# Altium footprint library RC0402FR072KL.PcbLib: 3 footprints
Each footprint in its own frame and in the unit in brackets; x right, y up, seen from the top. Pads: shape width x height; smd on the part's side, far side on the other; paste and mask are expansions set on the pad; w line width, h text height; cw(c..) or ccw(c..) is an arc to the next point about the centre after c.
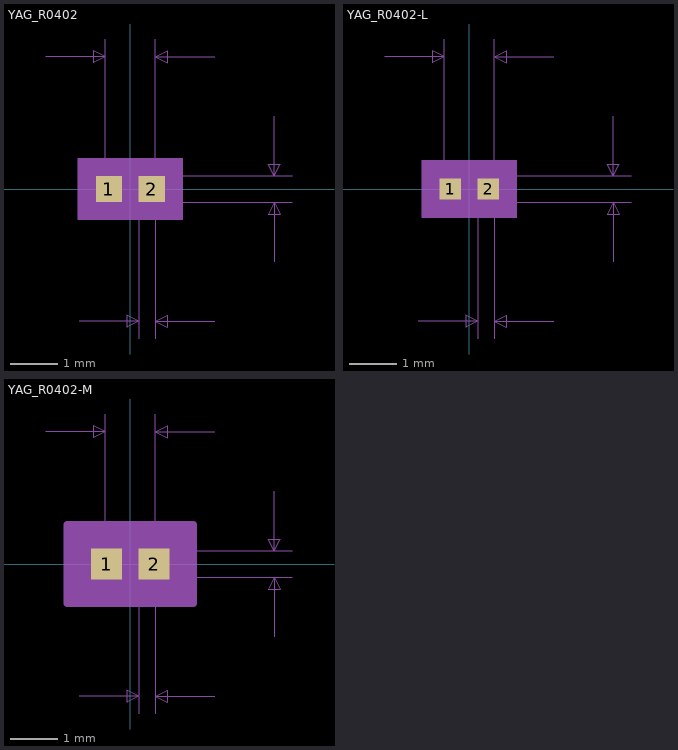
[diagram p0: the footprints below, top view; thin cyan lines are the x and y axes]

## YAG_R0402 [mil]
pads (2):
  rect 22x22 smd paste+0 mask+0: 1(-18,0) 2(18,0)
Mechanical 5:
  region: 44,-26 -44,-26 -44,26 44,26
Mechanical 7:
  lines w1: -71,111 -21,111 ; -43,-111 7,-111 ; -21,0 -21,126 ; 0,-11 136,-11 ; 0,11 136,11 ; 7,-126 7,0 ; 21,-126 21,0 21,126 ; 71,-111 21,-111 ; 71,111 21,111 ; 121,-61 121,-11 ; 121,61 121,11 ; -21,111 -31,116 -31,106 -21,111 ; 7,-111 -3,-106 -3,-116 7,-111 ; 21,-111 31,-106 31,-116 21,-111 ; 21,111 31,116 31,106 21,111 ; 121,-11 116,-21 126,-21 121,-11 ; 121,11 116,21 126,21 121,11
  text "Default Padstyle: RX22Y22D0T" at -350,-281 h50
  text "Alt 1 Padstyle: OX60Y90D30P" at -337.5,-341 h50
  text "Alt 2 Padstyle: OX90Y60D30P" at -337.5,-401 h50
  text "0.022in/0.559mm" at 141,-12.5 h25
  text "0.042in/1.067mm" at -93.75,131 h25
  text "0.014in/0.356mm" at -79.75,-156 h25
Mechanical 13:
  lines w1: -21,-11 -21,11 ; -21,-11 -7,-11 -7,11 -21,11 ; -21,-11 21,-11 ; -21,-11 -21,11 ; -21,11 21,11 ; 21,-11 7,-11 7,11 21,11 ; 21,-11 21,11 ; 21,-11 21,11
Mechanical 15:
  region: 39,-21 -39,-21 -39,21 39,21
  lines w6: -39,-21 -39,21 39,21 39,-21 -39,-21
3D body: height 10, standoff 0, extent 0,0 10,10

## YAG_R0402-L [mil]
pads (2):
  rect 18x18 smd paste+0 mask+0: 1(-16,0) 2(16,0)
Mechanical 5:
  region: 40,-24 -40,-24 -40,24 40,24
Mechanical 7:
  lines w1: -71,111 -21,111 ; -43,-111 7,-111 ; -21,0 -21,126 ; 0,-11 136,-11 ; 0,11 136,11 ; 7,-126 7,0 ; 21,-126 21,0 21,126 ; 71,-111 21,-111 ; 71,111 21,111 ; 121,-61 121,-11 ; 121,61 121,11 ; -21,111 -31,116 -31,106 -21,111 ; 7,-111 -3,-106 -3,-116 7,-111 ; 21,-111 31,-106 31,-116 21,-111 ; 21,111 31,116 31,106 21,111 ; 121,-11 116,-21 126,-21 121,-11 ; 121,11 116,21 126,21 121,11
  text "Default Padstyle: RX18Y18D0T" at -350,-279 h50
  text "Alt 1 Padstyle: OX60Y90D30P" at -337.5,-339 h50
  text "Alt 2 Padstyle: OX90Y60D30P" at -337.5,-399 h50
  text "0.022in/0.559mm" at 141,-12.5 h25
  text "0.042in/1.067mm" at -93.75,131 h25
  text "0.014in/0.356mm" at -79.75,-156 h25
Mechanical 13:
  lines w1: -21,-11 -21,11 ; -21,-11 -7,-11 -7,11 -21,11 ; -21,-11 21,-11 ; -21,-11 -21,11 ; -21,11 21,11 ; 21,-11 7,-11 7,11 21,11 ; 21,-11 21,11 ; 21,-11 21,11
Mechanical 15:
  region: 29,-13 -29,-13 -29,13 29,13
  lines w6: -29,-13 -29,13 29,13 29,-13 -29,-13
3D body: height 10, standoff 0, extent 0,0 10,10

## YAG_R0402-M [mil]
pads (2):
  rect 26x26 smd paste+0 mask+0: 1(-20,0) 2(20,0)
Mechanical 5:
  region: 48,-28 -48,-28 -48,28 48,28
Mechanical 7:
  lines w1: -71,111 -21,111 ; -43,-111 7,-111 ; -21,0 -21,126 ; 0,-11 136,-11 ; 0,11 136,11 ; 7,-126 7,0 ; 21,-126 21,0 21,126 ; 71,-111 21,-111 ; 71,111 21,111 ; 121,-61 121,-11 ; 121,61 121,11 ; -21,111 -31,116 -31,106 -21,111 ; 7,-111 -3,-106 -3,-116 7,-111 ; 21,-111 31,-106 31,-116 21,-111 ; 21,111 31,116 31,106 21,111 ; 121,-11 116,-21 126,-21 121,-11 ; 121,11 116,21 126,21 121,11
  text "Default Padstyle: RX26Y26D0T" at -350,-283 h50
  text "Alt 1 Padstyle: OX60Y90D30P" at -337.5,-343 h50
  text "Alt 2 Padstyle: OX90Y60D30P" at -337.5,-403 h50
  text "0.022in/0.559mm" at 141,-12.5 h25
  text "0.042in/1.067mm" at -93.75,131 h25
  text "0.014in/0.356mm" at -79.75,-156 h25
Mechanical 13:
  lines w1: -21,-11 -21,11 ; -21,-11 -7,-11 -7,11 -21,11 ; -21,-11 21,-11 ; -21,-11 -21,11 ; -21,11 21,11 ; 21,-11 7,-11 7,11 21,11 ; 21,-11 21,11 ; 21,-11 21,11
Mechanical 15:
  region: 53,-33 -53,-33 -53,33 53,33
  lines w6: -53,-33 -53,33 53,33 53,-33 -53,-33
3D body: height 10, standoff 0, extent 0,0 10,10